# Altium footprint library PcbLib.PcbLib: 285 footprints (part 2 of 18)
Each footprint in its own frame and in the unit in brackets; x right, y up, seen from the top. Pads: shape width x height; smd on the part's side, far side on the other; paste and mask are expansions set on the pad; w line width, h text height; cw(c..) or ccw(c..) is an arc to the next point about the centre after c.
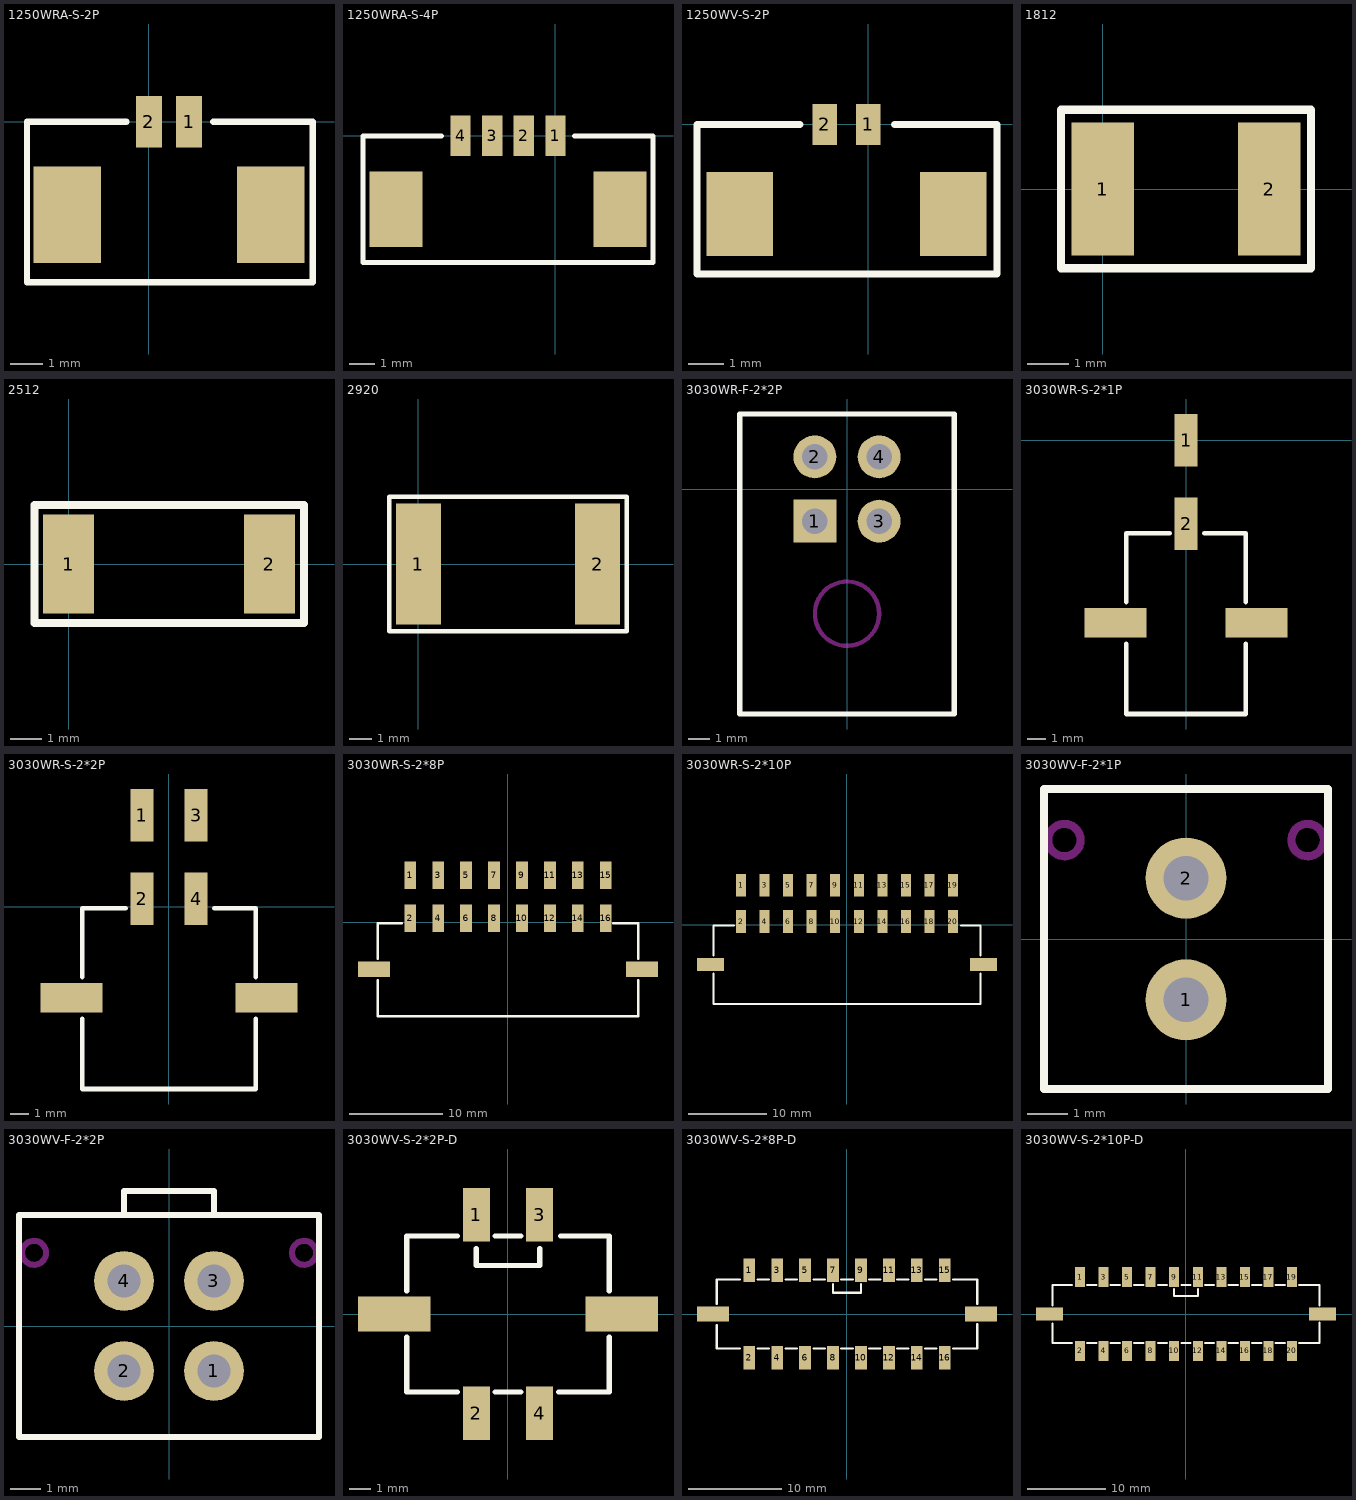
[diagram p1: the footprints below, top view; thin cyan lines are the x and y axes]

## 1250WRA-S-2P [mm]
pads (4):
  rect 0.8x1.6 smd: 1(1.25,0) 2(0,0)
  rect 2.1x3 smd: ""(-2.55,-2.9) ""(3.8,-2.9)
Top Overlay:
  lines w0.2: -0.7,0 -3.8,0 -3.8,-3.2 -3.8,-5 0,-5 5.1,-5 5.1,0 2,0

## 1250WRA-S-4P [mm]
pads (6):
  rect 0.8x1.6 smd: 1(0,0) 2(-1.25,0) 3(-2.5,0) 4(-3.75,0)
  rect 2.1x3 smd: ""(-6.3,-2.9) ""(2.55,-2.9)
Top Overlay:
  lines w0.2: -4.5,0 -7.6,0 -7.6,-4.2 -7.6,-5 -1.25,-5 3.85,-5 3.85,0 0.75,0

## 1250WV-S-2P [mm]
pads (4):
  rect 0.7x1.18 smd: 1(0,0) 2(-1.25,0)
  rect 1.9x2.4 smd: ""(-3.675,-2.56) ""(2.425,-2.56)
Top Overlay:
  lines w0.2: -1.95,0 -4.9,0 -4.9,-4.28 -0.53,-4.28 3.675,-4.28 3.675,0 0.75,0

## 1812 [mm]
pads (2):
  rect 1.5x3.2 smd: 1(0,0) 2(4,0)
Top Overlay:
  lines w0.2: -1,-1.9 5,-1.9 5,1.9 -1,1.9 -1,-1.9

## 2512 [mm]
pads (2):
  rect 1.65x3.2 smd: 1(0,0) 2(6.48,0)
Top Overlay:
  lines w0.254: -1.1,-1.9 -1.1,1.9 7.6,1.9 7.6,-1.9 -1.1,-1.9

## 2920 [mm]
pads (2):
  rect 2x5.4 smd: 1(0,0) 2(8,0)
Top Overlay:
  lines w0.2: -1.3,-3 -1.3,3 9.3,3 9.3,-3 -1.3,-3

## 3030WR-F-2*2P [mm]
pads (4):
  rect 2x2 hole 1.2: 1(-1.5,-1.5)
  round 2 hole 1.2: 2(-1.5,1.5) 3(1.5,-1.5) 4(1.5,1.5)
Top Overlay:
  lines w0.254: -5,-10.5 -5,3.5 5,3.5 5,-10.5 -5,-10.5
Keep-Out Layer:
  circle w0.2: c0,-5.82 r1.5

## 3030WR-S-2*1P [mm]
pads (4):
  rect 1.27x2.92 smd: 1(0,0) 2(0,-4.62)
  rect 3.43x1.65 smd: ""(-3.9,-10.1) ""(3.9,-10.1)
Top Overlay:
  lines w0.254: -3.3,-11.25 -3.3,-15.15 3.3,-15.15 3.3,-11.25 ; -3.3,-8.95 -3.3,-5.15 -0.9,-5.15 ; 1,-5.15 3.3,-5.15 3.3,-8.95

## 3030WR-S-2*2P [mm]
pads (6):
  rect 1.27x2.92 smd: 1(-1.5,5.05) 2(-1.5,0.43) 3(1.5,5.05) 4(1.5,0.43)
  rect 3.43x1.65 smd: ""(-5.4,-5.05) ""(5.4,-5.05)
Top Overlay:
  lines w0.254: -4.8,-6.2 -4.8,-10.1 4.8,-10.1 4.8,-6.2 ; -4.8,-3.9 -4.8,-0.1 -2.4,-0.1 ; 2.5,-0.1 4.8,-0.1 4.8,-3.9

## 3030WR-S-2*8P [mm]
pads (18):
  rect 1.27x2.92 smd: 1(-10.5,5.05) 2(-10.5,0.43) 3(-7.5,5.05) 4(-7.5,0.43) 5(-4.5,5.05) 6(-4.5,0.43) 7(-1.5,5.05) 8(-1.5,0.43) 9(1.5,5.05) 10(1.5,0.43) 11(4.5,5.05) 12(4.5,0.43) 13(7.5,5.05) 14(7.5,0.43) 15(10.5,5.05) 16(10.5,0.43)
  rect 3.43x1.65 smd: ""(-14.4,-5.05) ""(14.4,-5.05)
Top Overlay:
  lines w0.254: -14,-6.2 -14,-10.1 14,-10.1 14,-6.2 ; -14,-3.9 -14,-0.1 ; -13.8,-0.1 -11.4,-0.1 -14,-0.1 ; 11.3,-0.1 14,-0.1 14,-3.9 ; -14,-0.1 -14,-0.1

## 3030WR-S-2*10P [mm]
pads (22):
  rect 1.27x2.92 smd: 1(-13.5,5.05) 2(-13.5,0.43) 3(-10.5,5.05) 4(-10.5,0.43) 5(-7.5,5.05) 6(-7.5,0.43) 7(-4.5,5.05) 8(-4.5,0.43) 9(-1.5,5.05) 10(-1.5,0.43) 11(1.5,5.05) 12(1.5,0.43) 13(4.5,5.05) 14(4.5,0.43) 15(7.5,5.05) 16(7.5,0.43) 17(10.5,5.05) 18(10.5,0.43) 19(13.5,5.05) 20(13.5,0.43)
  rect 3.43x1.65 smd: ""(-17.4,-5.05) ""(17.4,-5.05)
Top Overlay:
  lines w0.254: -17,-6.2 -17,-10.1 11,-10.1 17,-10.1 ; -17,-3.9 -17,-0.1 ; -16.8,-0.1 -14.4,-0.1 -17,-0.1 ; 14.5,-0.1 17,-0.1 17,-3.9 ; 17,-6.2 17,-10.1 ; -17,-0.1 -17,-0.1 ; 17,-10.1 17,-10.1

## 3030WV-F-2*1P [mm]
pads (2):
  round 2 hole 1.1: 1(0,-1.5) 2(0,1.5)
Top Overlay:
  lines w0.2: 0,3.7 -3.5,3.7 ; -3.5,3.7 3.5,3.7 3.5,-3.7 -3.5,-3.7 -3.5,3.7
Keep-Out Layer:
  circle w0.2: c3,2.44 r0.4
  circle w0.2: c-3,2.44 r0.4

## 3030WV-F-2*2P [mm]
pads (4):
  round 2 hole 1.1: 1(1.5,-1.5) 2(-1.5,-1.5) 3(1.5,1.5) 4(-1.5,1.5)
Top Overlay:
  lines w0.2: 1.5,3.7 1.5,4.5 -1.5,4.5 -1.5,3.7 -5,3.7 ; -5,3.7 -5,-3.7 5,-3.7 5,3.7 -5,3.7
Keep-Out Layer:
  circle w0.2: c-4.5,2.44 r0.4
  circle w0.2: c4.5,2.44 r0.4

## 3030WV-S-2*2P-D [mm]
pads (6):
  rect 1.27x2.54 smd: 1(-1.5,4.7) 2(-1.5,-4.7) 3(1.5,4.7) 4(1.5,-4.7)
  rect 3.43x1.65 smd: ""(-5.4,0) ""(5.4,0)
Top Overlay:
  lines w0.254: -4.8,-1.1 -4.8,-3.7 -2.4,-3.7 ; -4.8,1.1 -4.8,3.7 -2.4,3.7 ; -1.5,3.1 -1.5,2.3 1.5,2.3 1.5,3.1 ; -0.6,-3.7 0.6,-3.7 ; -0.6,3.7 0.6,3.7 ; 2.4,-3.7 4.8,-3.7 4.8,-1.1 ; 2.5,3.7 4.8,3.7 4.8,1.1

## 3030WV-S-2*8P-D [mm]
pads (18):
  rect 1.27x2.54 smd: 1(-10.5,4.7) 2(-10.5,-4.7) 3(-7.5,4.7) 4(-7.5,-4.7) 5(-4.5,4.7) 6(-4.5,-4.7) 7(-1.5,4.7) 8(-1.5,-4.7) 9(1.5,4.7) 10(1.5,-4.7) 11(4.5,4.7) 12(4.5,-4.7) 13(7.5,4.7) 14(7.5,-4.7) 15(10.5,4.7) 16(10.5,-4.7)
  rect 3.43x1.65 smd: ""(-14.4,0) ""(14.4,0)
Top Overlay:
  lines w0.254: -14,-1.2 -14,-3.7 -11.5,-3.7 ; -14,1.1 -14,3.7 -11.5,3.7 ; -9.6,-3.7 -8.4,-3.7 ; -9.6,3.7 -8.4,3.7 ; -6.6,-3.7 -5.4,-3.7 ; -6.6,3.7 -5.4,3.7 ; -3.6,-3.7 -2.4,-3.7 ; -3.6,3.7 -2.4,3.7 ; -1.5,3.2 -1.5,2.3 1.5,2.3 1.5,3.2 ; -0.6,-3.7 0.6,-3.7 ; -0.6,3.7 0.6,3.7 ; 2.4,-3.7 3.6,-3.7 ; 2.4,3.7 3.6,3.7 ; 5.4,-3.7 6.6,-3.7 ; 5.4,3.7 6.6,3.7 ; 8.4,-3.7 9.6,-3.7 ; 8.4,3.7 9.6,3.7 ; 11.4,-3.7 14,-3.7 14,-1.1 ; 11.4,3.7 14,3.7 14,1.1 ; 3,3.7 3,3.7

## 3030WV-S-2*10P-D [mm]
pads (22):
  rect 1.27x2.54 smd: 1(-13.5,4.7) 2(-13.5,-4.7) 3(-10.5,4.7) 4(-10.5,-4.7) 5(-7.5,4.7) 6(-7.5,-4.7) 7(-4.5,4.7) 8(-4.5,-4.7) 9(-1.5,4.7) 10(-1.5,-4.7) 11(1.5,4.7) 12(1.5,-4.7) 13(4.5,4.7) 14(4.5,-4.7) 15(7.5,4.7) 16(7.5,-4.7) 17(10.5,4.7) 18(10.5,-4.7) 19(13.5,4.7) 20(13.5,-4.7)
  rect 3.43x1.65 smd: ""(-17.4,0) ""(17.4,0)
Top Overlay:
  lines w0.254: -17,-1.2 -17,-3.7 -14.5,-3.7 ; -17,1.1 -17,3.7 -14.5,3.7 ; -12.6,-3.7 -11.4,-3.7 ; -12.6,3.7 -11.4,3.7 ; -9.6,-3.7 -8.4,-3.7 ; -9.6,3.7 -8.4,3.7 ; -6.6,-3.7 -5.4,-3.7 ; -6.6,3.7 -5.4,3.7 ; -3.6,-3.7 -2.4,-3.7 ; -3.6,3.7 -2.4,3.7 ; -1.5,3.2 -1.5,2.3 1.5,2.3 1.5,3.2 ; -0.6,-3.7 0.6,-3.7 ; -0.6,3.7 0.6,3.7 ; 2.4,-3.7 3.6,-3.7 ; 2.4,3.7 3.6,3.7 ; 5.4,-3.7 6.6,-3.7 ; 5.4,3.7 6.6,3.7 ; 8.4,-3.7 9.6,-3.7 ; 8.4,3.7 9.6,3.7 ; 11.4,-3.7 12.6,-3.7 ; 11.4,3.7 12.6,3.7 ; 14.4,-3.7 17,-3.7 17,-1.1 ; 14.4,3.7 17,3.7 17,1.1 ; 0,3.7 0,3.7